# EAGLE library part CD4021BQDRQ1 (library Deegou_IC)
Automotive Catalog CMOS 8-Stage Static Shift Register Source: Datasheet <http://www.ti.com/lit/gpn/cd4021b-q1>
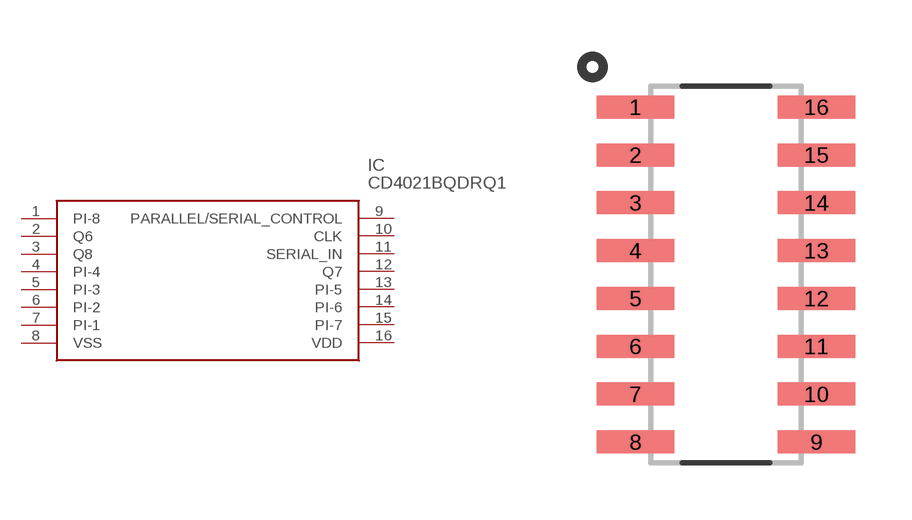
[diagram p91: symbol with the pads of SOIC127P600X175-16N; footprint SOIC127P600X175-16N]

Designator prefix IC

## CD4021BQDRQ1 (DESCRIPTION: Automotive Catalog CMOS 8-Stage Static Shift Register; HEIGHT: mm; MANUFACTURER_NAME: Texas Instruments; MANUFACTURER_PART_NUMBER: CD4021BQDRQ1)  [SOIC127P600X175-16N]
1  PI-8
2  Q6
3  Q8
4  PI-4
5  PI-3
6  PI-2
7  PI-1
8  VSS
9  PARALLEL/SERIAL_CONTROL
10  CLK
11  SERIAL_IN
12  Q7
13  PI-5
14  PI-6
15  PI-7
16  VDD

## Footprint SOIC127P600X175-16N (pad centres in mm)
SOIC127P600X175-16N
smd 2.057 x 0.61: 1 -4.801,8.89; 2 -4.801,7.62; 3 -4.801,6.35; 4 -4.801,5.08; 5 -4.801,3.81; 6 -4.801,2.54; 7 -4.801,1.27; 8 -4.801,0; 9 0,0; 10 0,1.27; 11 0,2.54; 12 0,3.81; 13 0,5.08; 14 0,6.35; 15 0,7.62; 16 0,8.89